# EAGLE library part IRF8910 (library Transistor - DUAL FET N Channel IRF8910)
Name des Bauteiles: -->IRF8910PBF Daten:Dual HEXFET , Power MOSFET Artikelnummer:#k070304 Datenblatt:www.alldatasheet.com __________________________________________ generated by Eagle Description Tool am : 28.01.2014 10:27:56 erstellt von: Hm
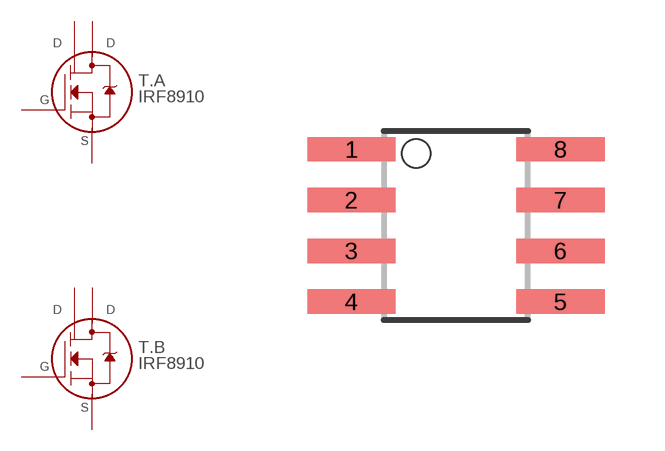
[diagram p0: symbol with the pads of SO-8; footprint SO-8]

Designator prefix T; gates .A=T-A .B=T-B

## IRF8910SMD  [SO-8]
1  .A:S1
2  .A:G1  hiz
3  .B:S2
4  .B:G2  hiz
5  .B:D2
6  .B:D
7  .A:D1
8  .A:D

## Footprint SO-8 (pad centres in mm)
SO-8
smd 2.21 x 0.61: 1 -2.616,1.905; 2 -2.616,0.635; 3 -2.616,-0.635; 4 -2.616,-1.905; 5 2.616,-1.905; 6 2.616,-0.635; 7 2.616,0.635; 8 2.616,1.905